# Altium schematic symbol library CL05A105MQ5NNNC.SchLib: 1 symbol
Pins are listed as number, name and electrical type; pins without a type are passive.

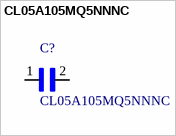
[diagram p0: symbol CL05A105MQ5NNNC]

## CL05A105MQ5NNNC
designator C?
/ CAP CER 1UF 6.3V X5R 0402 /; MF: Samsung Electro-Mechanics; Digi-Key_Part_Number: 1276-1235-1-ND; SnapEDA_Link: https://www.snapeda.com/parts/CL05A105MQ5NNNC/Samsung%20Electro-Mechanics/view-part/?ref=snap; Package: 0402 Samsung Electro-Mechanics; MP: CL05A105MQ5NNNC; Digi-Key_Purchase_URL: https://www.digikey.com/product-detail/en/samsung-electro-mechanics/CL05A105MQ5NNNC/1276-1235-1-ND/3889321?utm_source=snapeda&utm_medium=aggregator&utm_campaign=symbol; Value: *
footprint *CAPC1005X55N
pins: 1, 2